# EAGLE library part STL40DN3LLH5 (library STL40DN3LLH5)
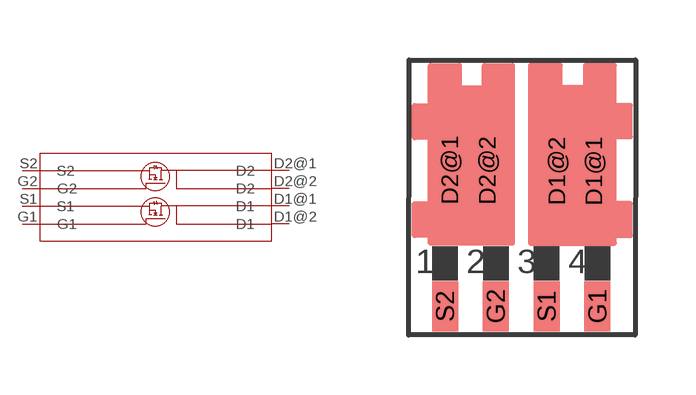
[diagram p0: symbol with the pads of STL40DN3LLH5; footprint STL40DN3LLH5]

Designator prefix -

## STL40DN3LLH5  [STL40DN3LLH5]
D1@1  D1
D1@2  D1
D2@1  D2
D2@2  D2
G1  G1
G2  G2
S1  S1
S2  S2

## Footprint STL40DN3LLH5 (pad centres in mm)
smd 0.635 x 1.27: D1@1 1.794,-2.645; D1@2 0.869,-2.637; D2@1 -1.806,-2.619; D2@2 -0.869,-2.623
smd 0.65 x 1.25: G1 1.88,-6.03; G2 -0.66,-6.03; S1 0.61,-6.03; S2 -1.93,-6.03